# Altium integrated library mcus_microchip.IntLib: 1 symbol
Pins are listed as number, name and electrical type; pins without a type are passive.

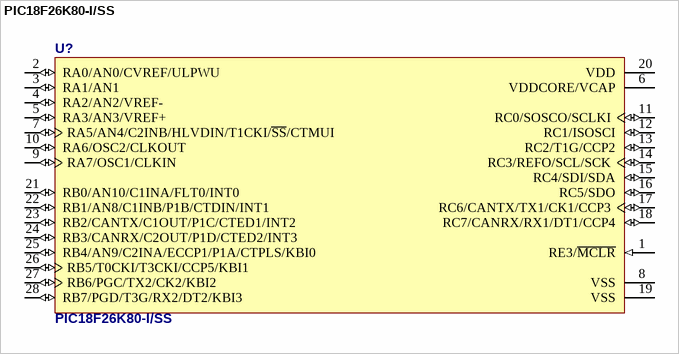
[diagram p0: symbol PIC18F26K80-I/SS]

## PIC18F26K80-I/SS
designator U?
Enhanced Flash Microcontroller with ECAN(TM) and nanoWatt XLP Technology, 64 MHz, 24 I/O, -40 to 85 degC, 28-pin SSOP (SS28), Tube; Manufacturer: Microchip; # of A/D Channels: 8; Digital Communication: 2 -A/E/USART, 0 -SPI, 1 -MSSP(SPI/I2C); EEPROM Data Memory (bytes): 1024; I/O Pins: 24; Internal Oscillator: 16 MHz, 31 kHz; Max. CPU Speed MHz: 64; Operation Voltage Range: 1.8V - 5.5V; Program Memory KWords: 32; RAM: 3648; Timers: 2 - 8-bit, 3 - 16-bit, 0 - 32-bit; DatasheetVersion: Rev. F; PackageVersion: C04-073B, 12/2012; PackageReference: SSOP-SS28; PackageDescription: 28-Lead Plastic Shrink Small Outline, 10.2 x 5.3 mm Body, 0.65 mm Pitch; Supplier 1: Digi-Key; Supplier Part Number 1: PIC18F26K80-I/SS-ND; Supplier 2: Farnell; Supplier Part Number 2: 1823166; Supplier 3: Newark; Supplier Part Number 3: 76R6688; Supplier 4: Newark; Supplier Part Number 4: 82T9596; Supplier 5: Mouser; Supplier Part Number 5: 579-PIC18F26K80-I/SS; Memory Type: Flash; Packing: TUBE; Program Memory KBytes: 64; RoHS: TRUE; Mounting Technology: Surface Mount; PartNumber: PIC18F26K80-I/SS; ComponentLink1Description: Datasheet; ComponentLink1URL: http://ww1.microchip.com/downloads/en/DeviceDoc/39977f.pdf; ComponentLink2Description: Package Specification; ComponentLink2URL: http://www.microchip.com/stellent/groups/techpub_sg/documents/packagingspec/en012702.pdf; ComponentLink3Description: URL Link1; ComponentLink3URL: Product URL:http://www.microchip.com/datasheet/PIC18F26K80
footprint SSOP28
pins: 1 RE3/~{MCLR} (in), 2 RA0/AN0/CVREF/ULPWU (io), 3 RA1/AN1 (io), 4 RA2/AN2/VREF- (io), 5 RA3/AN3/VREF+ (io), 6 VDDCORE/VCAP (power), 7 RA5/AN4/C2INB/HLVDIN/T1CKI/~{SS}/CTMUI (io), 8 VSS (power) "Ground reference for logic and I/O pins.", 9 RA7/OSC1/CLKIN (io), 10 RA6/OSC2/CLKOUT (io), 11 RC0/SOSCO/SCLKI (io), 12 RC1/ISOSCI (io), 13 RC2/T1G/CCP2 (io), 14 RC3/REFO/SCL/SCK (io), 15 RC4/SDI/SDA (io), 16 RC5/SDO (io), 17 RC6/CANTX/TX1/CK1/CCP3 (io), 18 RC7/CANRX/RX1/DT1/CCP4 (io), 19 VSS (power) "Ground reference for logic and I/O pins.", 20 VDD (power) "Positive supply for logic and I/O pins.", 21 RB0/AN10/C1INA/FLT0/INT0 (io), 22 RB1/AN8/C1INB/P1B/CTDIN/INT1 (io), 23 RB2/CANTX/C1OUT/P1C/CTED1/INT2 (io), 24 RB3/CANRX/C2OUT/P1D/CTED2/INT3 (io), 25 RB4/AN9/C2INA/ECCP1/P1A/CTPLS/KBI0 (io), 26 RB5/T0CKI/T3CKI/CCP5/KBI1 (io), 27 RB6/PGC/TX2/CK2/KBI2 (io), 28 RB7/PGD/T3G/RX2/DT2/KBI3 (io)